# Altium footprint library Capacitor2.PcbLib: 60 footprints (part 4 of 4)
Each footprint in its own frame and in the unit in brackets; x right, y up, seen from the top. Pads: shape width x height; smd on the part's side, far side on the other; paste and mask are expansions set on the pad; w line width, h text height; cw(c..) or ccw(c..) is an arc to the next point about the centre after c.
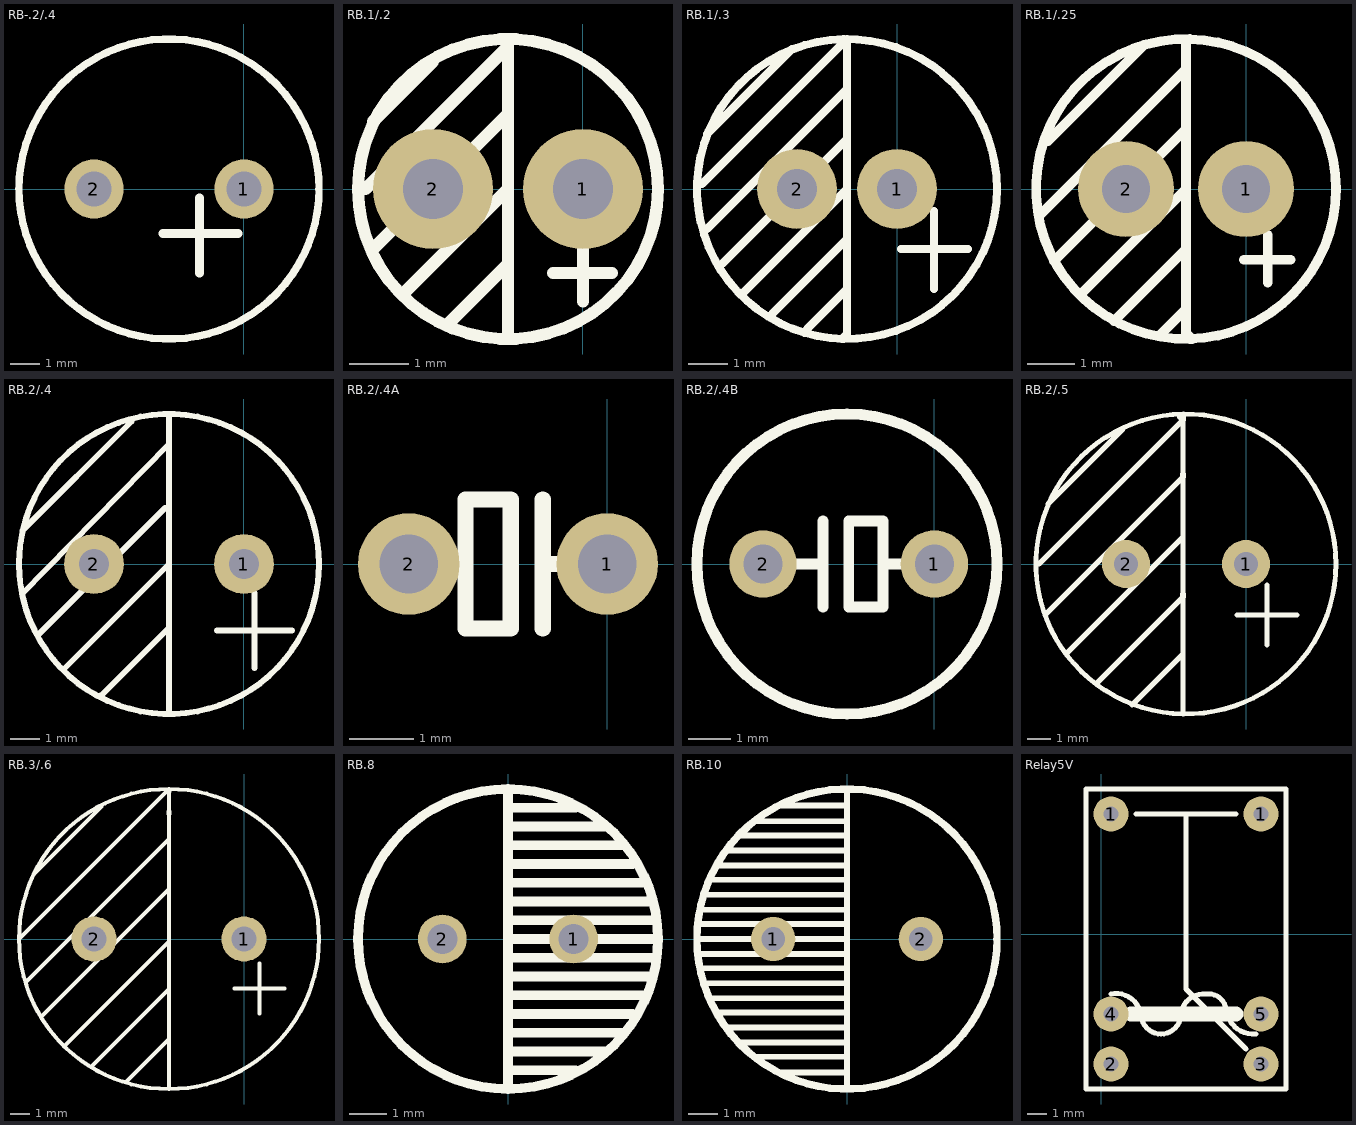
[diagram p3: the footprints below, top view; thin cyan lines are the x and y axes]

## RB-.2/.4 [mm]
pads (2):
  round 2 hole 1.2: 1(0,0) 2(-5.08,0)
Top Overlay:
  circle w0.254: c-2.54,0 r5.08
  lines w0.305: -2.74,-1.5 -0.2,-1.5 ; -1.5,-2.84 -1.5,-0.3

## RB.1/.2 [mil]
pads (2):
  round 80 hole 40: 1(0,0) 2(-100,0)
Top Overlay:
  circle w8: c-50,0 r100
  lines w8: -145,0 -50,95 -50,-95 ; -140,-40 -50,50 ; -140,45 -100,85 ; -120,-70 -50,0 ; -90,-90 -50,-50 ; -20,-56 19.37,-56 ; 0,-75 0,-35

## RB.1/.3 [mil]
pads (2):
  round 80 hole 40: 1(0,0) 2(-100,0)
Top Overlay:
  circle w8: c-50,0 r150
  lines w8: -195,5 -50,150 -50,-145 -55,-150 ; -190,-40 -50,100 ; -190,55 -105,140 ; -175,-75 -50,50 ; -155,-105 -50,0 ; -125,-125 -50,-50 ; -90,-140 -50,-100 ; 4,-60 71,-60 ; 37,-100 37,-22

## RB.1/.25 [mil]
pads (2):
  round 80 hole 40: 1(0,0) 2(-100,0)
Top Overlay:
  circle w8: c-50,0 r125
  lines w8: -170,-20 -50,100 ; -165,40 -85,120 ; -160,-60 -50,50 ; -135,-85 -50,0 ; -110,-110 -50,-50 ; -70,-120 -50,-100 -50,-105 ; -50,120 -50,-120 -45,-125 ; -2,-59 37.37,-59 ; 18,-78 18,-38

## RB.2/.4 [mil]
pads (2):
  round 80 hole 40: 1(0,0) 2(-200,0)
Top Overlay:
  circle w8: c-100,0 r200
  lines w8: -296,-40 -100,160 ; -295,45 -150,190 ; -275,-95 -105,75 -100,75 ; -240,-140 -100,0 ; -190,-175 -100,-85 ; -100,-200 -100,200 ; -36,-89 64,-89 ; 14,-139 14,-39

## RB.2/.4A [mil]
pads (2):
  round 62 hole 36: 1(0,0) 2(-121.26,0)
Top Overlay:
  lines w10: -121.26,0 -86.61,0 ; -39.37,-39.37 -39.37,39.37 ; -39.37,0 0,0 ; -86.61,-39.37 -59.05,-39.37 -59.05,39.37 -86.61,39.37 -86.61,-39.37

## RB.2/.4B [mil]
pads (2):
  round 62 hole 36: 1(0,0) 2(-157.48,0)
Top Overlay:
  circle w10: c-80.31,0 r137.79
  lines w10: -157.48,0 -102.36,0 ; -102.36,-39.37 -102.36,39.37 ; -47.24,0 0,0 ; -78.74,-39.37 -47.24,-39.37 -47.24,39.37 -78.74,39.37 -78.74,-39.37

## RB.2/.5 [mil]
pads (2):
  round 80 hole 40: 1(0,0) 2(-200,0)
Top Overlay:
  circle w8: c-100,0 r250
  lines w8: -345,0 -105,240 ; -335,-85 -105,145 ; -330,100 -205,225 ; -300,-150 -105,45 ; -250,-200 -105,-55 ; -190,-235 -105,-150 ; -105,-250 -105,245 ; -15,-85 85,-85 ; 35,-135 35,-35
  lines w10: -110,245 -105,245 -105,240 ; -105,-55 -105,-50 ; -105,145 -105,150

## RB.3/.6 [mil]
pads (2):
  round 90 hole 50: 1(0,0) 2(-300,0)
Top Overlay:
  circle w8: c-150,0 r300
  lines w8: -450,0 -155,295 ; -435,-85 -150,200 ; -420,130 -285,265 ; -405,-155 -150,100 ; -360,-215 -150,-5 ; -305,-255 -150,-100 ; -235,-285 -150,-200 ; -150,-300 -150,295 ; -19,-99 81,-99 ; 31,-149 31,-49
  lines w10: -155,295 -150,295 ; -150,250 -150,255

## RB.8 [mm] "8*12  470uF/25V"
height 12
pads (2):
  round 1.3 / inner round 1.3 / far side round 1.5 hole 0.8: 1(1.75,0) 2(-1.75,0)
Top Overlay:
  circle w0.254: c0,0 r4
  lines w0.254: 0,-3.9 0,3.9 ; 0,-3.5 1.802,-3.5 ; 0,-3 2.564,-3 ; 0,-2.5 3.072,-2.5 ; 0,-2 3.326,-2 ; 0,-1.5 3.58,-1.5 ; 0,-1 3.834,-1 ; 0,-0.5 3.834,-0.5 ; 0,0 4,0 ; 0,0.5 3.834,0.5 ; 0,1 3.834,1 ; 0,1.5 3.58,1.5 ; 0,2 3.326,2 ; 0,2.5 3.072,2.5 ; 0,3 2.564,3 ; 0,3.5 1.802,3.5
3D body "SW3dPS-Cap electro 8x11.5x3.5mm.STEP": height 11.83, standoff -3.68, extent -4.025,-4.025 4.026,4.026

## RB.10 [mm] "10*17  470uF/35V 1000uF/25V"
height 17
pads (2):
  round 1.5 / inner round 1.5 / far side round 1.8 hole 0.8: 1(-2.5,0) 2(2.5,0)
Top Overlay:
  circle w0.254: c0,0 r5.08
  lines w0.2: -5.08,0 0,0 ; -5.055,-0.508 0,-0.508 ; -5.055,0.508 0,0.508 ; -4.953,-0.991 0,-0.991 ; -4.953,0.991 0,0.991 ; -4.826,-1.499 0,-1.499 ; -4.826,1.499 0,1.499 ; -4.648,-2.007 0,-2.007 ; -4.648,2.007 0,2.007 ; -4.394,-2.489 0,-2.489 ; -4.394,2.489 0,2.489 ; -4.089,-2.997 0,-2.997 ; -4.089,2.997 0,2.997 ; -3.683,-3.505 0,-3.505 ; -3.683,3.505 0,3.505 ; -3.073,-3.988 0,-3.988 ; -3.073,3.988 0,3.988 ; -2.286,-4.521 0,-4.521 ; -2.286,4.521 0,4.521 ; 0,-5.08 0,5.08
3D body "SW3dPS-Cap electro 10x16x5.0mm.STEP": height 16.33, standoff -3.94, extent -5.026,-5.026 5.025,5.025

## Relay5V [mil]
pads (6):
  round 70 hole 30: 1(20,240) 1(320,240) 2(20,-260) 3(320,-260) 4(20,-160) 5(320,-160)
Top Overlay:
  lines w10: 20,-120 cw(c30,-170) 80,-160 ccw(c120,-160) 120,-200 ccw(c120,-160) 160,-160 cw(c205,-165) 210,-120 cw(c215,-155) 250,-150 ccw(c305,-145) 310,-200 ; 70,240 270,240 ; 170,240 170,-110 290,-230 ; -30,-310 -30,290 370,290 370,-310 -30,-310
  lines w30: 60,-160 270,-160